# Altium footprint library cdemu_footprints.PcbLib: 1 footprints
Each footprint in its own frame and in the unit in brackets; x right, y up, seen from the top. Pads: shape width x height; smd on the part's side, far side on the other; paste and mask are expansions set on the pad; w line width, h text height; cw(c..) or ccw(c..) is an arc to the next point about the centre after c.
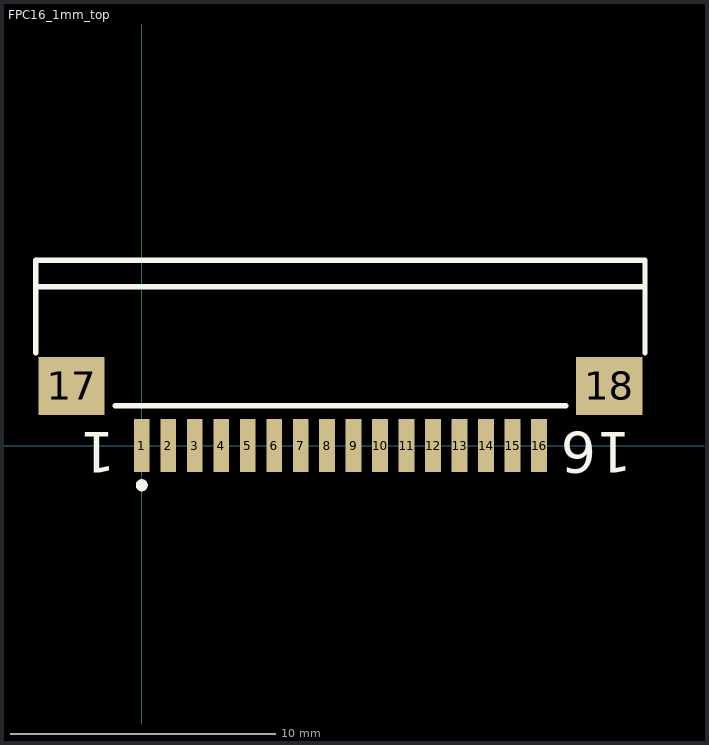
[diagram p0: the footprint, top view; thin cyan lines are the x and y axes]

## FPC16_1mm_top [mm]
pads (18):
  rect 0.6x2 smd: 1(0,0) 2(1,0) 3(2,0) 4(3,0) 5(4,0) 6(5,0) 7(6,0) 8(7,0) 9(8,0) 10(9,0) 11(10,0) 12(11,0) 13(12,0) 14(13,0) 15(14,0) 16(15,0)
  rect 2.5x2.2 smd: 17(-2.65,2.25) 18(17.65,2.25)
Top Overlay:
  circle w0.254: c0,-1.5 r0.1
  lines w0.203: -4,3.5 -4,7 19,7 19,3.5 ; -4,6 19,6 ; -1,1.5 16,1.5
  text "16" at 18.5,0.5 h1.52
  text "1" at -1,0.5 h1.52